# Altium footprint library MODULE_4754.PcbLib: 1 footprints
Each footprint in its own frame and in the unit in brackets; x right, y up, seen from the top. Pads: shape width x height; smd on the part's side, far side on the other; paste and mask are expansions set on the pad; w line width, h text height; cw(c..) or ccw(c..) is an arc to the next point about the centre after c.
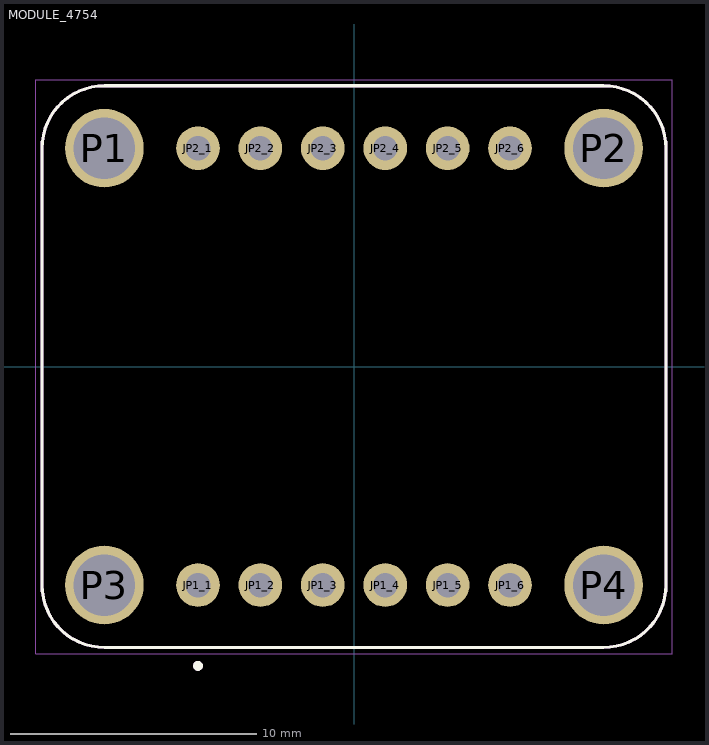
[diagram p0: the footprint, top view; thin cyan lines are the x and y axes]

## MODULE_4754 [mil]
height 181.1
pads (16):
  round 70 hole 39.37: JP1_1(-250,-350) JP1_2(-150,-350) JP1_3(-50,-350) JP1_4(50,-350) JP1_5(150,-350) JP1_6(250,-350) JP2_1(-250,350) JP2_2(-150,350) JP2_3(-50,350) JP2_4(50,350) JP2_5(150,350) JP2_6(250,350)
  round 125.98 hole 98.43: P1(-400,350) P2(400,350) P3(-400,-350) P4(400,-350)
Top Overlay:
  circle w7.87: c-250,-479.53 r3.94
  lines w5: -500,-350 ccw(c-400,-350) -400,-450 400,-450 ccw(c400,-350) 500,-350 500,350 ccw(c400,350) 400,450 -400,450 ccw(c-400,350) -500,350 -500,-350
Mechanical 13:
  circle w7.87: c-250,-479.53 r3.94
  lines w5: -500,-350 ccw(c-400,-350) -400,-450 400,-450 ccw(c400,-350) 500,-350 500,350 ccw(c400,350) 400,450 -400,450 ccw(c-400,350) -500,350 -500,-350
Mechanical 15:
  lines w1.97: -509.84,-459.84 -509.84,459.84 509.84,459.84 509.84,-459.84 -509.84,-459.84